# Altium footprint library RELE.PcbLib: 1 footprints
Each footprint in its own frame and in the unit in brackets; x right, y up, seen from the top. Pads: shape width x height; smd on the part's side, far side on the other; paste and mask are expansions set on the pad; w line width, h text height; cw(c..) or ccw(c..) is an arc to the next point about the centre after c.
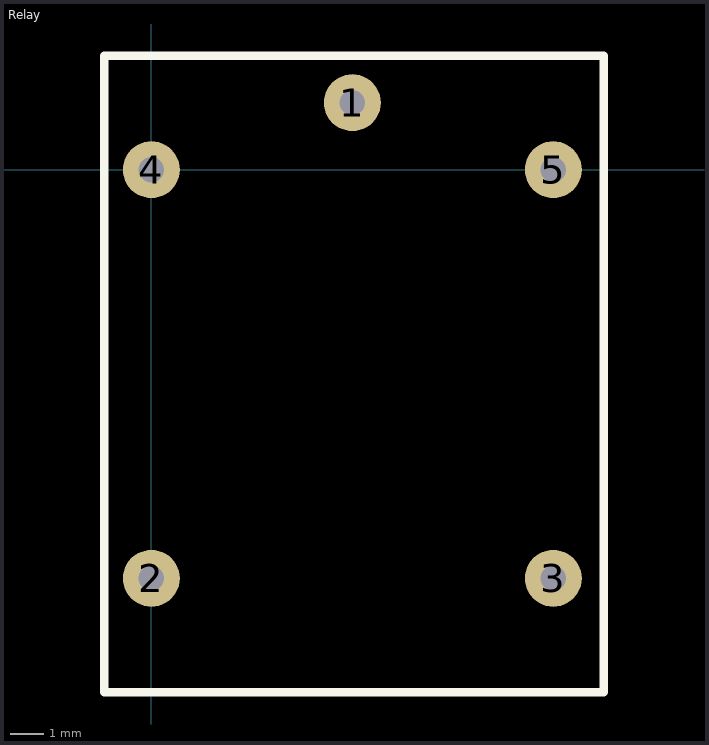
[diagram p0: the footprint, top view; thin cyan lines are the x and y axes]

## Relay [mm]
pads (5):
  round 1.7 hole 0.762: 1(6,2) 2(0,-12.2) 3(12,-12.2) 4(0,0) 5(12,0)
Top Overlay:
  lines w0.254: -1.4,-15.6 -1.4,3.4 13.5,3.4 13.5,-15.6 -1.4,-15.6